# EAGLE library part SWITCH_TPA_4DIR_NAV (library SENSORPARTS)
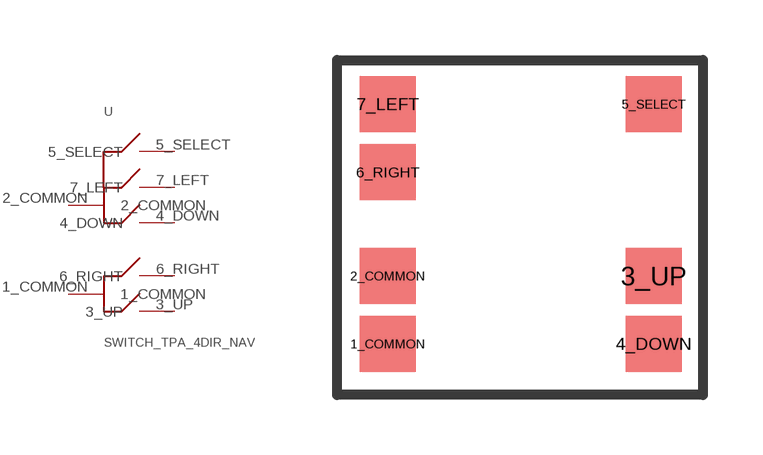
[diagram p1: symbol with the pads of SWITCH_TPA_4DIR; footprint SWITCH_TPA_4DIR]

Designator prefix -

## SWITCH_TPA_4DIR_NAV  [SWITCH_TPA_4DIR]
1_COMMON  1_COMMON  pwr
2_COMMON  2_COMMON  pwr
3_UP  3_UP  out
4_DOWN  4_DOWN  out
5_SELECT  5_SELECT  out
6_RIGHT  6_RIGHT  out
7_LEFT  7_LEFT  out

## Footprint SWITCH_TPA_4DIR (pad centres in mm)
TPA Series Navigation Tact Switch for SMT from ITT industries
smd 1.4 x 1.4: 1_COMMON -3.302,-3.048; 2_COMMON -3.302,-1.348; 3_UP 3.348,-1.348; 4_DOWN 3.348,-3.048; 5_SELECT 3.348,2.952; 6_RIGHT -3.302,1.252; 7_LEFT -3.302,2.952